# Altium footprint library AD85F4CR.PcbLib: 1 footprints
Each footprint in its own frame and in the unit in brackets; x right, y up, seen from the top. Pads: shape width x height; smd on the part's side, far side on the other; paste and mask are expansions set on the pad; w line width, h text height; cw(c..) or ccw(c..) is an arc to the next point about the centre after c.
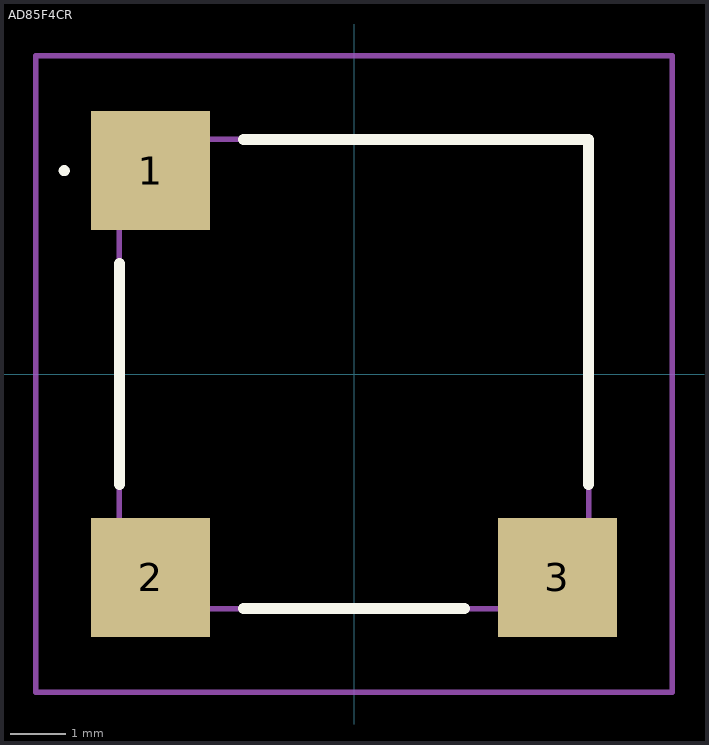
[diagram p0: the footprint, top view; thin cyan lines are the x and y axes]

## AD85F4CR [mm]
pads (3):
  rect 2.16x2.16 smd: 1(-3.685,3.685) 2(-3.685,-3.685) 3(3.685,-3.685)
Top Overlay:
  lines w0.1: -5.3,3.685 -5.3,3.685 ; -5.3,3.685 ccw(c-5.25,3.685) -5.2,3.685 ; -5.3,3.685 cw(c-5.25,3.685) -5.2,3.685 ; -5.2,3.685 -5.2,3.685
  lines w0.2: -4.25,-2 -4.25,2 ; -2,-4.25 2,-4.25 ; -2,4.25 4.25,4.25 4.25,-2
Mechanical 15:
  lines w0.1: -4.25,-4.25 4.25,-4.25 4.25,4.25 -4.25,4.25 -4.25,-4.25
Mechanical 20:
  lines w0.1: -5.765,-5.765 5.765,-5.765 5.765,5.765 -5.765,5.765 -5.765,-5.765